# EAGLE library part LT5534 (library X893)
http://www.google.com/url?sa=t&rct=j&q=lt5534&source=web&cd=1&ved=0CCsQFjAA&url=http%3A%2F%2Fwww.linear.com%2Fproduct%2FLT5534&ei=zfAmT8qHDYml4gTU442tBA&usg=AFQjCNHhoupq-6yVIOOJP-ovPqUbILq5jw
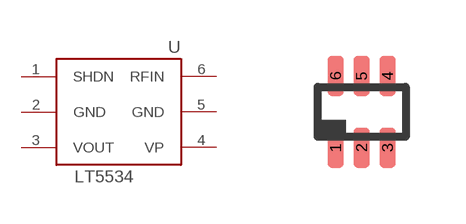
[diagram p144: symbol with the pads of SC70; footprint SC70]

Designator prefix -

## LT5534  [SC70]
1  SHDN  in
2  GND  sup
3  VOUT  pas
4  VP  pas
5  GND  sup
6  RFIN  pas

## Footprint SC70 (pad centres in mm)
smd 0.4 x 1: 1 -0.65,-0.9; 2 0,-0.9; 3 0.65,-0.9; 4 0.65,0.9; 5 0,0.9; 6 -0.65,0.9